# EAGLE library part ADP-2-10-75 (library minicircuits1)
Power Splitter/Combiner 2 Way-0° 75 R Aqueous washable. For non-aquesous requirements, LRPS units available in case style QQQ130 Denotes 75 Ohm model, for coax connector models 75 Ohm BNC connectors are standard Internal load dissipation: 0.25 Watt Matched power rating: 0.5 Watt Non-hermetic Pins 2 & 5 must be connected together on PC board ADP-2-10-75 2 Way-0° Frequency MHz Isolation, dB Insertion Loss, dB Above 3.0dB Phase Unbalance Degrees Amplitude Unbalance, dB Power Input, W VSWR (:1) fL - fU L Typ. Min. M Typ. Min. U Typ. Min. L Typ. Max. M Typ. Max. U Typ. Max. L Max. M Max. U Max. L Max. M Max. U Max. as Combiner Max. as Splitter Max. S Typ. Max. OUT Typ. Max. 50-1000 26 20 22 18 0.60 1.00 0.80 1.40 2.00 3.00 0.15 0.30 0.50 1.10 1.28 L=low range(fL to 10fL) M=mid range(10fL to fU/2) U=upper range(fU/2 to fU) FREQ (MHz) Insertion Loss Amplitude Unbalance (dB) Isolation Phase Unbalance (Degrees) FREQ (MHz) VSWR S VSWR 1 VSWR 2 (dB) S-1 (dB) S-2 (dB) 1-2 50.00 3.47 3.53 0.060 23.97 0.07 50.00 1.07 1.36 1.35 60.00 3.45 3.52 0.060 23.87 0.09 60.00 1.07 1.35 1.34 70.00 3.45 3.51 0.060 23.76 0.11 70.00 1.06 1.35 1.34 80.00 3.44 3.50 0.070 23.69 0.12 80.00 1.06 1.34 1.34 100.00 3.43 3.49 0.060 23.61 0.19 100.00 1.05 1.34 1.33 125.00 3.43 3.49 0.060 23.52 0.19 125.00 1.05 1.33 1.32 150.00 3.43 3.49 0.060 23.54 0.23 150.00 1.06 1.32 1.31 175.00 3.43 3.49 0.060 23.53 0.28 175.00 1.06 1.31 1.30 200.00 3.44 3.50 0.060 23.59 0.42 200.00 1.06 1.30 1.30 225.00 3.45 3.51 0.070 23.66 0.42 225.00 1.06 1.29 1.28 250.00 3.46 3.53 0.070 23.72 0.38 250.00 1.07 1.28 1.27 275.00 3.47 3.53 0.060 23.79 0.52 275.00 1.07 1.27 1.25 300.00 3.48 3.54 0.070 23.89 0.52 300.00 1.08 1.25 1.25 325.00 3.49 3.55 0.060 23.97 0.59 325.00 1.08 1.24 1.24 350.00 3.51 3.57 0.060 24.07 0.67 350.00 1.09 1.23 1.22 375.00 3.51 3.58 0.070 24.16 0.65 375.00 1.09 1.21 1.20 400.00 3.51 3.58 0.070 24.24 0.71 400.00 1.10 1.20 1.18 425.00 3.52 3.59 0.070 24.33 0.74 425.00 1.10 1.19 1.18 450.00 3.53 3.61 0.080 24.44 0.79 450.00 1.11 1.18 1.17 475.00 3.54 3.62 0.080 24.53 0.83 475.00 1.11 1.17 1.15 500.00 3.52 3.60 0.080 24.59 0.87 500.00 1.12 1.15 1.13 550.00 3.54 3.63 0.090 24.72 0.81 550.00 1.14 1.13 1.11 575.00 3.54 3.63 0.090 24.75 0.96 575.00 1.14 1.13 1.11 600.00 3.54 3.63 0.090 24.81 0.96 600.00 1.15 1.12 1.10 625.00 3.54 3.63 0.080 24.80 0.99 625.00 1.16 1.12 1.09 650.00 3.54 3.63 0.090 24.80 1.00 650.00 1.17 1.12 1.08 675.00 3.55 3.63 0.080 24.77 1.00 675.00 1.18 1.12 1.08 700.00 3.54 3.65 0.110 24.72 1.09 700.00 1.18 1.12 1.10 725.00 3.55 3.65 0.100 24.63 1.12 725.00 1.19 1.13 1.11 750.00 3.55 3.65 0.090 24.56 1.14 750.00 1.20 1.14 1.12 775.00 3.55 3.64 0.090 24.43 1.14 775.00 1.21 1.15 1.11 800.00 3.56 3.67 0.110 24.34 1.07 800.00 1.21 1.16 1.12 825.00 3.57 3.68 0.110 24.17 1.10 825.00 1.22 1.18 1.15 850.00 3.59 3.70 0.110 23.99 1.11 850.00 1.22 1.19 1.18 875.00 3.62 3.72 0.100 23.85 1.21 875.00 1.23 1.20 1.19 900.00 3.63 3.73 0.100 23.68 1.16 900.00 1.24 1.22 1.19 925.00 3.63 3.74 0.110 23.45 1.17 925.00 1.25 1.24 1.20 950.00 3.66 3.78 0.120 23.27 1.21 950.00 1.25 1.26 1.23 975.00 3.69 3.81 0.120 23.08 1.21 975.00 1.25 1.28 1.26 1000.00 3.72 3.84 0.120 22.87 1.21 1000.00 1.26 1.29 1.27
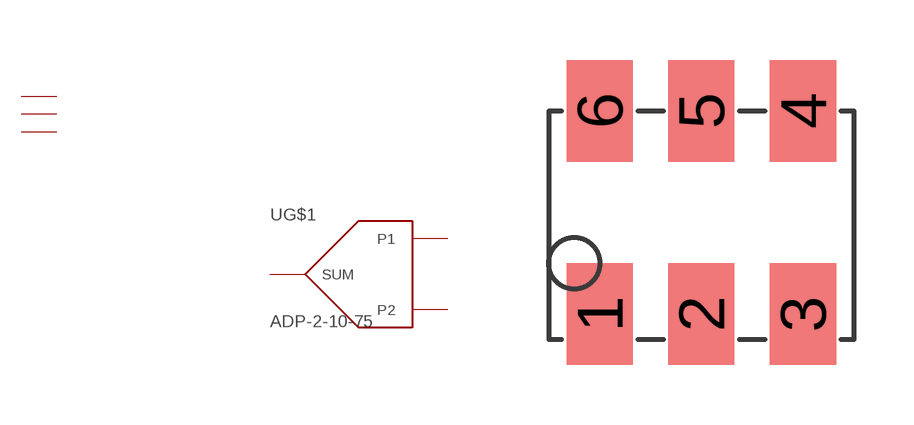
[diagram p18: symbol with the pads of CD542; footprint CD542]

Designator prefix -; gates G$1=POWER_SPLITTER-2W G$2=GND G$3=NC G$4=NC

## ADP-2-10-75  [CD542]
1  G$1:SUM
2  G$4:NC  nc
3  G$1:P1
4  G$1:P2
5  G$3:NC  nc
6  G$2:GND  pwr

## Footprint CD542 (pad centres in mm)
CD542 http://www.minicircuits.com/cgi-bin/inquery.cgi?querystring=CD542&searchtype=case&x=22&y=9
smd 1.651 x 2.54: 1 0,1.27; 2 2.54,1.27; 3 5.08,1.27; 4 5.08,6.35; 5 2.54,6.35; 6 0,6.35